# Altium schematic symbol library Schlib1.SchLib: 18 symbols
Pins are listed as number, name and electrical type; pins without a type are passive.

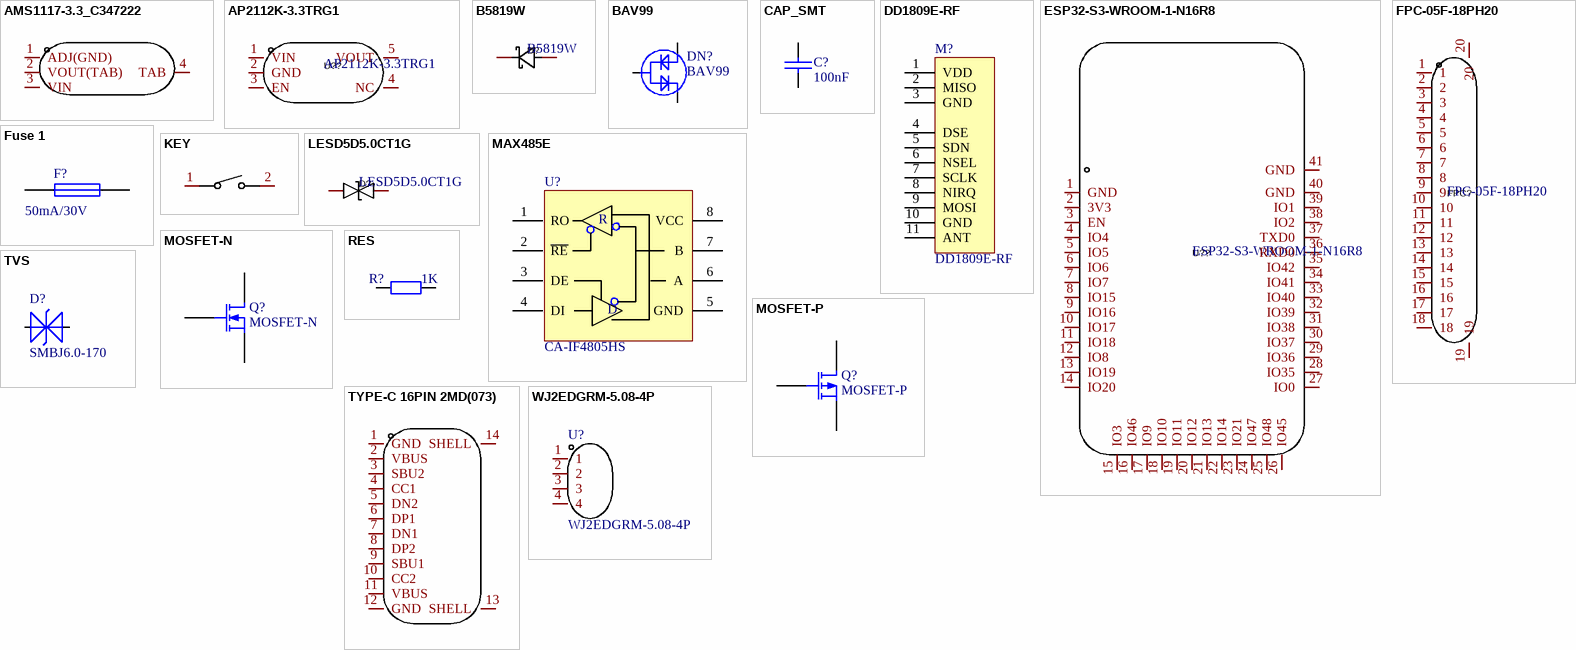
[diagram p0: symbols AMS1117-3.3_C347222 to WJ2EDGRM-5.08-4P]

## AMS1117-3.3_C347222
designator U??  (value not drawn)
Manufacturer: UMW(广东友台半导体); Add into BOM: yes; Output Type: 固定; Output Polarity: 正; Number of Outputs: 1; Maximum Input Voltage: 18V; Output Voltage: 3.3V; Dropout Voltage: 1.3V@(1A); Output Current: 1A; Power Supply Rejection Ratio (PSRR): 60dB@(120Hz); Name: AMS1117-3.3; Symbol: AMS1117-3.3_C347222; Device: AMS1117-3.3_C347222; LCSC Part Name: AMS1117-3.3; Supplier Part: C347222; Manufacturer Part: AMS1117-3.3; Supplier Footprint: SOT-223; JLCPCB Part Class: Extended Part; Datasheet: https://atta.szlcsc.com/upload/public/pdf/source/20211011/50CC665C22E3A66C08379A4A74BDA25C.pdf; Supplier: LCSC; Convert to PCB: yes
footprint SOT-223-4_L6.5-W3.5-P2.30-LS7.0-BR
pins: 1 ADJ(GND), 2 VOUT(TAB), 3 VIN, 4 TAB

## AP2112K-3.3TRG1
designator U??
Manufacturer: DIODES(美台); Add into BOM: yes; Output Type: 固定; Output Polarity: 正; Number of Outputs: 1; Maximum Input Voltage: 6V; Output Voltage: 3.3V; Dropout Voltage: 400mV@(600mA); Output Current: 600mA; Power Supply Rejection Ratio (PSRR): 65dB@(100Hz,1kHz); Name: AP2112K-3.3TRG1; Symbol: AP2112K-3.3TRG1; Device: AP2112K-3.3TRG1; LCSC Part Name: AP2112K-3.3TRG1; Supplier Part: C51118; Manufacturer Part: AP2112K-3.3TRG1; Supplier Footprint: SOT-25-5; JLCPCB Part Class: Extended Part; Datasheet: https://atta.szlcsc.com/upload/public/pdf/source/20171221/C51118_15138312998391195590.pdf; Supplier: LCSC; Convert to PCB: yes
footprint SOT-25-5_L2.9-W1.6-P0.95-LS2.8-BL
pins: 1 VIN, 2 GND, 3 EN, 4 NC, 5 VOUT

## B5819W
designator D?
Manufacturer: GOODWORK(固得沃克); Symbol: B5819W_C2943878; Add into BOM: yes; Reverse Voltage (Vr): 40V; Average Rectified Current (Io): 1A; Forward Voltage (Vf@If): 580mV@1A; Reverse Leakage Current (Ir): 50uA@40V; Name: B5819W; Device: B5819W; LCSC Part Name: 40V 1A 580mV@1A; Supplier Part: C2943878; Manufacturer Part: B5819W; Supplier Footprint: SOD-123; JLCPCB Part Class: Extended Part; Datasheet: https://atta.szlcsc.com/upload/public/pdf/source/20220114/81042131F39C8520B6390246D7392C1A.pdf; Supplier: LCSC; Convert to PCB: yes; Diode Configuration: -
footprint SOD-123F_L2.7-W1.6-LS3.8-RD-1
pins: 1 K, 2 A

## BAV99
designator DN?
品号: 3101002543; 品名: 开关二极管 BAV99 SOT-23; 规格: SMD【贴片】
footprint SOT-23(SOT-23-3)
pins: 1, 2, 3

## CAP_SMT
designator C?, comment 100nF
贴片电容
footprint 0402_C
footprint 0603_C
footprint 0603_C波峰焊
footprint 0805_C
footprint 0805_C波峰焊
footprint 1206_C
footprint 1206_C波峰焊
pins: 1, 2
2 alternate drawings of the same symbol

## DD1809E-RF
designator M?
平插
footprint DD1809(E)-RF-平
pins: 1 VDD, 2 MISO, 3 GND, 4 DSE, 5 SDN, 6 NSEL, 7 SCLK, 8 NIRQ, 9 MOSI, 10 GND, 11 ANT

## ESP32-S3-WROOM-1-N16R8
designator U??
Manufacturer: ESPRESSIF(乐鑫); Symbol: ESP32-S3-WROOM-1(N16R8); Add into BOM: yes; Name: ESP32-S3-WROOM-1-N16R8; Device: ESP32-S3-WROOM-1-N16R8; LCSC Part Name: 通用型Wi-Fi+低功耗蓝牙MCU模组; Supplier Part: C2913202; Manufacturer Part: ESP32-S3-WROOM-1-N16R8; Supplier Footprint: SMD,18x25.5mm; JLCPCB Part Class: Extended Part; Datasheet: https://atta.szlcsc.com/upload/public/pdf/source/20220705/4E799F39581577F766659887F738A439.pdf; Supplier: LCSC; Convert to PCB: yes
footprint WIRELM-SMD_ESP32-S3-WROOM-1
pins: 1 GND, 2 3V3, 3 EN, 4 IO4, 5 IO5, 6 IO6, 7 IO7, 8 IO15, 9 IO16, 10 IO17, 11 IO18, 12 IO8, 13 IO19, 14 IO20, 15 IO3, 16 IO46, 17 IO9, 18 IO10, 19 IO11, 20 IO12, 21 IO13, 22 IO14, 23 IO21, 24 IO47, 25 IO48, 26 IO45, 27 IO0, 28 IO35, 29 IO36, 30 IO37, 31 IO38, 32 IO39, 33 IO40, 34 IO41, 35 IO42, 36 RXD0, 37 TXD0, 38 IO2, 39 IO1, 40 GND, 41 GND

## FPC-05F-18PH20
designator FPC?
Manufacturer: XUNPU(讯普); Add into BOM: yes; Pitch: 0.5mm; Number of Contacts: 18P; Locking Feature: 翻盖式; FFC, FCB Thickness: 0.3mm; Name: FPC-05F-18PH20; Symbol: FPC-05F-18PH20; Device: FPC-05F-18PH20; LCSC Part Name: 0.5mm P数:18P 翻盖式 下接; Supplier Part: C2856802; Manufacturer Part: FPC-05F-18PH20; Supplier Footprint: SMD,P=0.5mm; JLCPCB Part Class: Extended Part; Datasheet: https://atta.szlcsc.com/upload/public/pdf/source/20210922/C2856802_2A845D1961F33AEC1ED22CECB292335F.pdf; Supplier: LCSC; Convert to PCB: yes; Mounting Type: 卧贴; Contact Type: 下接; Height Above Board: 2mm; Operating Temperature Range: -25℃~+85℃
footprint FPC-SMD_18P-P0.50_FPC-05F-18PH20
pins: 1, 2, 3, 4, 5, 6, 7, 8, 9, 10, 11, 12, 13, 14, 15, 16, 17, 18, 19, 20

## Fuse 1
designator F?, comment 贴片自恢复保险丝 1812 0.1A 60V  (value not drawn)
Fuse; Published: 8-Jun-2000; LatestRevisionDate: 17-Jul-2002; LatestRevisionNote: Re-released for DXP Platform.; PackageReference: PIN-W2/E2.8; Publisher: Altium Limited
footprint PIN-W2/E2.8
footprint 1812
footprint 可恢复保险丝 贴片 MSMD014
footprint 1206-R
footprint 1206-R-REFLOW
footprint 1206_R
pins: 1, 2
2 alternate drawings of the same symbol
text: 50mA/30V

## KEY
designator SW??, comment TS-1088-AR02016  (value not drawn)
Manufacturer: XUNPU(讯普); Add into BOM: yes; Contact Current: 50mA; Voltage Rating (DC): 12V; Insulation Resistance: 100MΩ; Circuit: 单刀单掷; Actuator Style: 圆形按钮; Actuator/Cap Color: 黑色; Operating Force: 160gf@±50gf; Mechanical Life: 10万次; Pin Style: SMD接片; Switch Length: 4mm; Switch Width: 3mm; Switch Height: 2mm; Strike Gundam: 否; Name: TS-1088-AR02016; Symbol: TS-1088-AR02016; Device: TS-1088-AR02016; LCSC Part Name: 4*3*2mm 立贴 轻触开关; Supplier Part: C720477; Manufacturer Part: TS-1088-AR02016; Supplier Footprint: SMD; JLCPCB Part Class: Extended Part; Datasheet: https://atta.szlcsc.com/upload/public/pdf/source/20200810/C720475_60D09DD6C54279ADDB2DC25100F1CC11.pdf; Supplier: LCSC; Convert to PCB: yes; Mounting Style: 立贴; Operating Temperature: -30℃~+80℃
footprint SW-SMD_L3.9-W3.0-P4.45
pins: 1, 2

## LESD5D5.0CT1G
designator D?
Manufacturer: LRC(乐山无线电); Add into BOM: yes; Polarity: 双向; Reverse Stand-Off Voltage (Vrwm): 5V; Breakdown Voltage (VBR): 5.6V; Peak Pulse Current(Ipp)@8/20us: 9.4A; Clamping Voltage@Ipp: 18.6V; Name: LESD5D5.0CT1G; Symbol: LESD5D5.0CT1G; Device: LESD5D5.0CT1G; LCSC Part Name: 双向ESD; Supplier Part: C383211; Manufacturer Part: LESD5D5.0CT1G; Supplier Footprint: SOD-523; JLCPCB Part Class: Extended Part; Datasheet: https://atta.szlcsc.com/upload/public/pdf/source/20190807/C383211_633DF4B4E2C161403226E5235FE33A1C.pdf; Supplier: LCSC; Convert to PCB: yes
footprint SOD-523_L1.2-W0.8-LS1.6-BI
pins: 1, 2

## MAX485E
designator U?, comment CA-IF4805HS
MAX485E
footprint SOP8
pins: 1 RO, 2 ~{RE}, 3 DE, 4 DI, 5 GND, 6 A, 7 B, 8 VCC
text: R; D

## MOSFET-N
designator Q?
N-Channel MOSFET
footprint SOT-23(SOT-23-3)
pins: 1 G, 2 S, 3 D

## MOSFET-P
designator Q?
P-Channel MOSFET
footprint SOT-23(SOT-23-3)
pins: 1 G, 2 S, 3 D

## RES
designator R?, comment 1K
Resistor; Published: 8-Jun-2000; LatestRevisionDate: 17-Jul-2002; LatestRevisionNote: Re-released for DXP Platform.; Publisher: Altium Limited; Value: 1K
footprint 0603_R
pins: 1, 2
2 alternate drawings of the same symbol

## TVS
designator D?, comment SMBJ6.0-170
TVS
footprint SMB(DO-214AA) - TVS
pins: 1, 2

## TYPE-C 16PIN 2MD(073)
designator USB??  (value not drawn)
Manufacturer: SHOU HAN(首韩); Add into BOM: yes; Gender: 母座; Number of Contacts: 16; Number of Ports: 1; Current Rating - Power (Max): 5A; Name: TYPE-C 16PIN 2MD(073); Symbol: TYPE-C 16PIN 2MD(073); Device: TYPE-C 16PIN 2MD(073); LCSC Part Name: TYPE-C母座 16P 4脚插件带定位柱 不锈钢外壳 2次模顶; Supplier Part: C2765186; Manufacturer Part: TYPE-C 16PIN 2MD(073); Supplier Footprint: SMD; JLCPCB Part Class: Extended Part; Supplier: LCSC; Convert to PCB: yes; Connector Type: Type-C; Standard: -; Mounting Style: 卧贴; Operating Temperature Range: -25℃~+85℃
footprint USB-C-SMD_TYPE-C-6PIN-2MD-073
pins: 1 GND, 2 VBUS, 3 SBU2, 4 CC1, 5 DN2, 6 DP1, 7 DN1, 8 DP2, 9 SBU1, 10 CC2, 11 VBUS, 12 GND, 13 SHELL, 14 SHELL

## WJ2EDGRM-5.08-4P
designator U?
连接器类型:板端/插座-闭口;间距:5.08mm;排数:1;每排PIN数:4;安装方式:弯针;颜色:绿色;固定方式:螺丝固定;; Manufacturer: KANGNEX(康奈克斯电气); Symbol: WJ2EDGRM-5.08-4P-14-00A; Add into BOM: yes; Pitch: 5.08mm; Number of PINs Per Row: 4; fixed form: 螺丝固定; Device: WJ2EDGRM-5.08-4P; LCSC Part Name: 板端/插座-闭口 5.08mm 排数:1 每排P数:4 弯针 螺丝固定; Supplier Part: C122715; Manufacturer Part: WJ2EDGRM-5.08-4P; Supplier Footprint: P=5.08mm; JLCPCB Part Class: 扩展库; Datasheet: https://atta.szlcsc.com/upload/public/pdf/source/20191225/C122715_5EDD850D23D79873C9DD0610CAA761C1.pdf; Supplier: LCSC; Convert to PCB: yes; Connector Type: 板端/插座-闭口; Number of Rows: 1; Mounting Style: 弯针; Color: 绿色; Name: WJ2EDGRM-5.08-4P
footprint CONN-TH_4P-P5.08_WJ2EDGRM-5.08-4P-14-00A
pins: 1, 2, 3, 4